# EAGLE library part BD9D321EFJ-E2 (library BD9D321EFJ-E2)
ROHM - BD9D321EFJ-E2 - DC-DC Switching Buck Step Down Regulator, Adjustable, 4.5V-18Vin, 765mV-7Vout, 3Aout, HTSOP-8 Source: Datasheet <http://rohmfs.rohm.com/en/products/databook/datasheet/ic/power/switching_regulator/bd9d321efj-e.pdf>
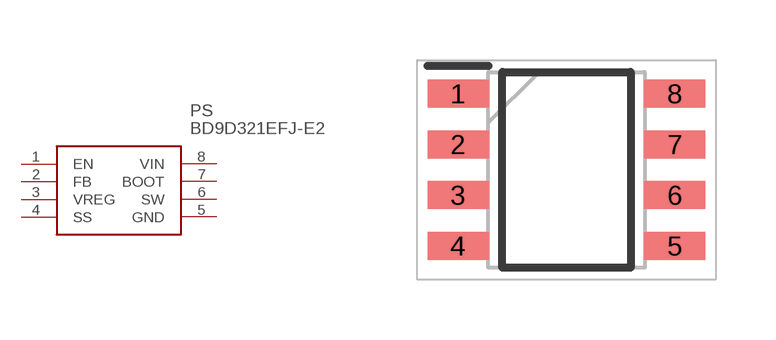
[diagram p0: symbol with the pads of SOIC127P600X100-8N; footprint SOIC127P600X100-8N]

Designator prefix PS

## BD9D321EFJ-E2 (Description: ROHM - BD9D321EFJ-E2 - DC-DC Switching Buck Step Down Regulator, Adjustable, 4.5V-18Vin, 765mV-7Vout, 3Aout, HTSOP-8; Height: 1mm; Manufacturer_Name: ROHM Semiconductor; Manufacturer_Part_Number: BD9D321EFJ-E2; Mouser_Part_Number: 755-BD9D321EFJ-E2; Mouser_Price-Stock: https://www.mouser.co.uk/ProductDetail/ROHM-Semiconductor/BD9D321EFJ-E2?qs=9Cg39qEKpi7kktUEjUojmg%3D%3D)  [SOIC127P600X100-8N]
1  EN
2  FB
3  VREG
4  SS
5  GND
6  SW
7  BOOT
8  VIN

## Footprint SOIC127P600X100-8N (pad centres in mm)
HTSOP-J8-
smd 1.525 x 0.7: 1 -2.712,1.905; 2 -2.712,0.635; 3 -2.712,-0.635; 4 -2.712,-1.905; 5 2.712,-1.905; 6 2.712,-0.635; 7 2.712,0.635; 8 2.712,1.905